# Altium schematic symbol library PowerDetectors.SchLib: 8 symbols
Pins are listed as number, name and electrical type; pins without a type are passive.

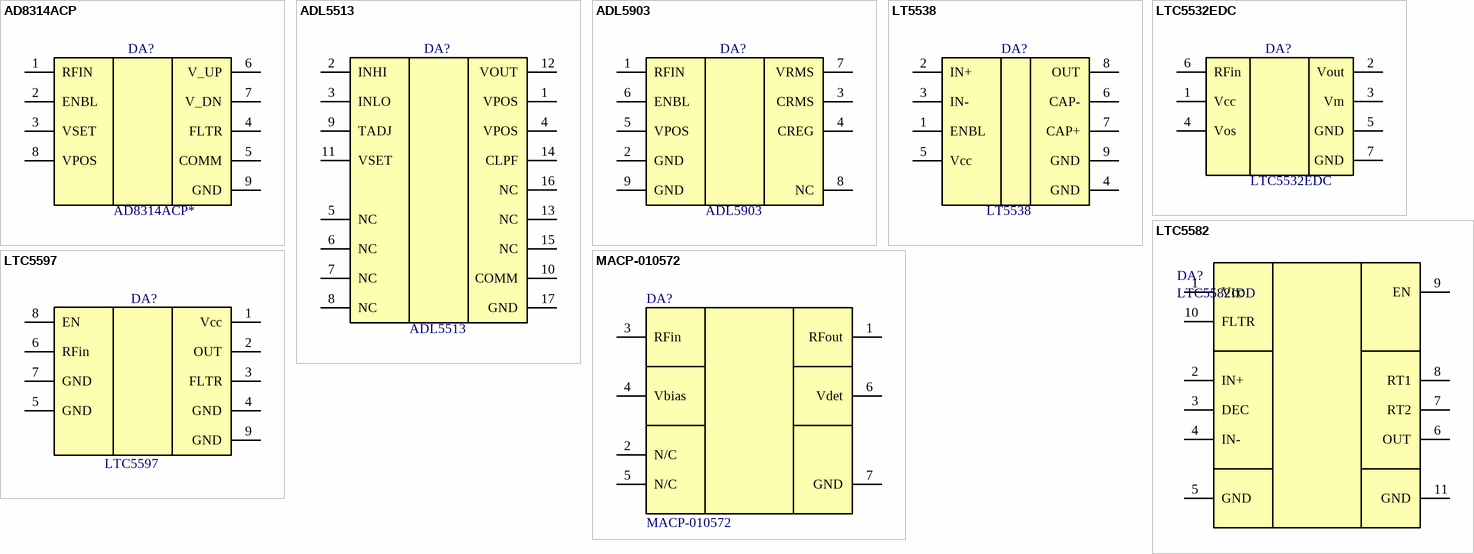
[diagram p0: symbols AD8314ACP to MACP-010572]

## AD8314ACP
designator DA?, comment AD8314ACP*
100 MHz to 2.7 GHz, 45 dB  RF Detector/Controller; Manufacturer: Analog Devices; PartNumber: AD8314ACP*
footprint SON9P50_300X200X80L42X24T174X45N (Small Outline No-Lead (SON with Tab), 0.50 mm pitch; 8 pin, 3.00 mm L X 2.00 mm W X 0.80 mm H body)
pins: 1 RFIN, 2 ENBL, 3 VSET, 4 FLTR, 5 COMM, 6 V_UP, 7 V_DN, 8 VPOS, 9 GND

## ADL5513
designator DA?
1 MHz to 4 GHz, 80 dB Logarithmic Detector/Controller; PartNumber: ADL5513; Manufacturer: *
footprint QFN17P50_300X300X80L40X24T160N (Quad Flat No-Lead (QFN with Tab), 0.50 mm pitch; square, 4 pin X 4 pin, 3.00 mm L X 3.00 mm W X 0.80 mm H body)
pins: 1 VPOS, 2 INHI, 3 INLO, 4 VPOS, 5 NC, 6 NC, 7 NC, 8 NC, 9 TADJ, 10 COMM, 11 VSET, 12 VOUT, 13 NC, 14 CLPF, 15 NC, 16 NC, 17 GND

## ADL5903
designator DA?
200 MHz to 6 GHz 35 dB TruPwr™ Detector; PartNumber: ADL5903; Manufacturer: *
footprint SON9P50_200X200X60L35X25T160X100N (Small Outline No-Lead (SON with Tab), 0.50 mm pitch; 8 pin, 2.00 mm L X 2.00 mm W X 0.60 mm H body)
pins: 1 RFIN, 2 GND, 3 CRMS, 4 CREG, 5 VPOS, 6 ENBL, 7 VRMS, 8 NC, 9 GND

## LT5538
designator DA?
40MHz to 3.8GHz RF Power Detector with 75dB Dynamic Range; PartNumber: LT5538; Manufacturer: *
footprint SON9P50_300X300X80L38X25T238X165N (Small Outline No-Lead (SON with Tab), 0.50 mm pitch; 8 pin, 3.00 mm L X 3.00 mm W X 0.80 mm H body)
pins: 1 ENBL, 2 IN+, 3 IN-, 4 GND, 5 Vcc, 6 CAP-, 7 CAP+, 8 OUT, 9 GND

## LTC5532EDC
designator DA?
Precision 300MHz to 7GHz RF Detector with Gain and Offset Adjustment; PartNumber: LTC5532EDC; Manufacturer: *
footprint SON7P50_200X200X80L38X25T137X56N (Small Outline No-Lead (SON with Tab), 0.50 mm pitch; 6 pin, 2.00 mm L X 2.00 mm W X 0.80 mm H body)
pins: 1 Vcc, 2 Vout, 3 Vm, 4 Vos, 5 GND, 6 RFin, 7 GND

## LTC5582
designator DA?, comment LTC5582IDD
RMS Power Detector, 40MHz to 10GHz; Manufacturer: Analog Devices; ComponentLink1Description: Datasheet; ComponentLink1URL: https://www.analog.com/media/en/technical-documentation/data-sheets/LTC5582.pdf; Category: RMS Power Detector; PartNumber: LTC5582IDD
footprint DFN-10
pins: 1 Vcc, 2 IN+, 3 DEC, 4 IN-, 5 GND, 6 OUT, 7 RT2, 8 RT1, 9 EN, 10 FLTR, 11 GND

## LTC5597
designator DA?
100MHz to 70GHz Linear-in-dB RMS Power Detector with 35dB Dynamic Range; Manufacturer: Analog Devices; PartNumber: LTC5597; ComponentLink1Description: Product Page; ComponentLink1URL: https://www.analog.com/en/products/ltc5597.html#product-overview
footprint LTC5597 (DFN 8-Leads, Body 2,00x2,00mm, Pitch 0,50mm, Thermal Pad 1,60x0,25mm, IPC Medium Density)
pins: 1 Vcc, 2 OUT, 3 FLTR, 4 GND, 5 GND, 6 RFin, 7 GND, 8 EN, 9 GND

## MACP-010572
designator DA?
Directional Power Detector / 6 - 18 GHz; Manufacturer: MACOM; Category: Power Detector; PartNumber: MACP-010572; ComponentLink1Description: DataSheet; ComponentLink1URL: https://ru.mouser.com/datasheet/2/249/MACP-010572-1488239.pdf
footprint MACP-010572
pins: 1 RFout, 2 N/C, 3 RFin, 4 Vbias, 5 N/C, 6 Vdet, 7 GND